# Altium schematic symbol library 564ТМ2.Schlib: 1 symbol
Pins are listed as number, name and electrical type; pins without a type are passive.

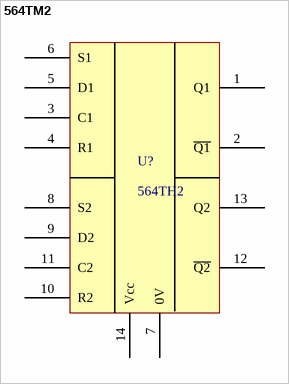
[diagram p0: symbol 564ТМ2]

## 564ТМ2
designator U?, comment 564ТН2
Назначение: Тригер; Наименование: 564ТН2
footprint 14PIN FLATPACK
pins: 1 Q1, 2 ~{Q1}, 3 C1, 4 R1, 5 D1, 6 S1, 7 0V, 8 S2, 9 D2, 10 R2, 11 C2, 12 ~{Q2}, 13 Q2, 14 Vcc